# Altium schematic symbol library Components - 08.04.22 - 12.49.SchLib: 1 symbol
Pins are listed as number, name and electrical type; pins without a type are passive.

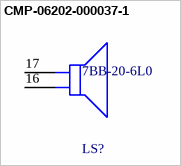
[diagram p0: symbol CMP-06202-000037-1]

## CMP-06202-000037-1
designator LS?, comment 7BB-20-6L0
BUZZER ELEMENT STD 6.3KHZ; Outside Diameter: 20mm; Lead Length: 50mm; Insulation Resistance: 100MR; Impedance: 1kR; Capacitance: 10nF; Size: 0.79inch; Min Operating Temperature: -10°C; Lead Free: Contains Lead; Diameter: 20mm; Radiation Hardening: No; Max Operating Temperature: 40°C; Self Resonant Frequency: 6.3kHz; REACH SVHC: No SVHC; Mount: Wire; Termination: Wire Leads; Frequency: 6.3kHz; Max Frequency: 6.3kHz; Package Quantity: 600; Packaging: Bulk; Height: 0.42mm; Series: 7BB
footprint FP-7BB-20-6L0-MFG
pins: 16, 17